# Altium schematic symbol library DIODE.SchLib: 5 symbols
Pins are listed as number, name and electrical type; pins without a type are passive.

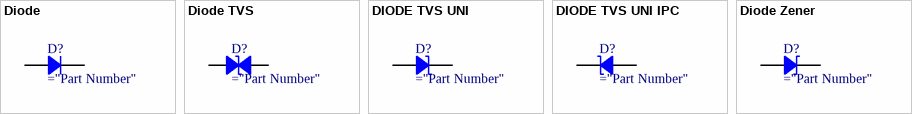
[diagram p0: symbols Diode to Diode Zener]

## Diode
designator D?
Rectifier Diode
pins: 1, 2

## Diode TVS
designator D?
Zener Diode
pins: 1, 2

## DIODE TVS UNI
designator D?
Rectifier Diode
pins: 1, 2

## DIODE TVS UNI IPC
designator D?
Rectifier Diode
pins: 1, 2

## Diode Zener
designator D?
Zener Diode
pins: 1, 2